# EAGLE library part HIN208CBZ (library Intersil_By_element14_Batch_1)
Transmitters/Receivers
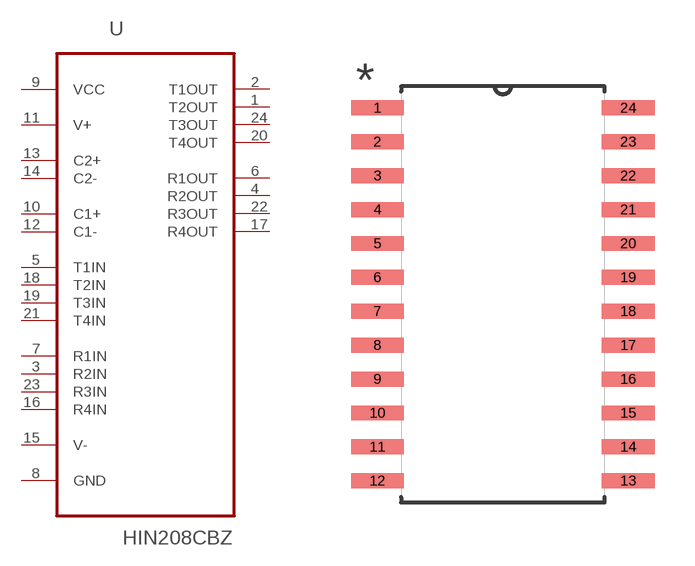
[diagram p140: symbol with the pads of SOIC127P1032X265-24N; footprint SOIC127P1032X265-24N]

Designator prefix U

## HIN208CBZ (MPN: HIN208CBZ; OC_FARNELL: 1562036; OC_NEWARK: 79K6852; PACKAGE: SOIC-24; SUPPLIER: INTERSIL)  [SOIC127P1032X265-24N]
1  T2OUT  out
2  T1OUT  out
3  R2IN  in
4  R2OUT  out
5  T1IN  in
6  R1OUT  out
7  R1IN  in
8  GND  pas
9  VCC  pwr
10  C1+  pas
11  V+  pwr
12  C1-  pas
13  C2+  pas
14  C2-  pas
15  V-  pwr
16  R4IN  in
17  R4OUT  out
18  T2IN  in
19  T3IN  in
20  T4OUT  out
21  T4IN  in
22  R3OUT  out
23  R3IN  in
24  T3OUT  out

## Footprint SOIC127P1032X265-24N (pad centres in mm)
smd 1.981 x 0.559: 1 -4.699,6.985; 2 -4.699,5.715; 3 -4.699,4.445; 4 -4.699,3.175; 5 -4.699,1.905; 6 -4.699,0.635; 7 -4.699,-0.635; 8 -4.699,-1.905; 9 -4.699,-3.175; 10 -4.699,-4.445; 11 -4.699,-5.715; 12 -4.699,-6.985; 13 4.699,-6.985; 14 4.699,-5.715; 15 4.699,-4.445; 16 4.699,-3.175; 17 4.699,-1.905; 18 4.699,-0.635; 19 4.699,0.635; 20 4.699,1.905; 21 4.699,3.175; 22 4.699,4.445; 23 4.699,5.715; 24 4.699,6.985